# Altium footprint library PcbLib1.PcbLib: 18 footprints (part 1 of 2)
Each footprint in its own frame and in the unit in brackets; x right, y up, seen from the top. Pads: shape width x height; smd on the part's side, far side on the other; paste and mask are expansions set on the pad; w line width, h text height; cw(c..) or ccw(c..) is an arc to the next point about the centre after c.
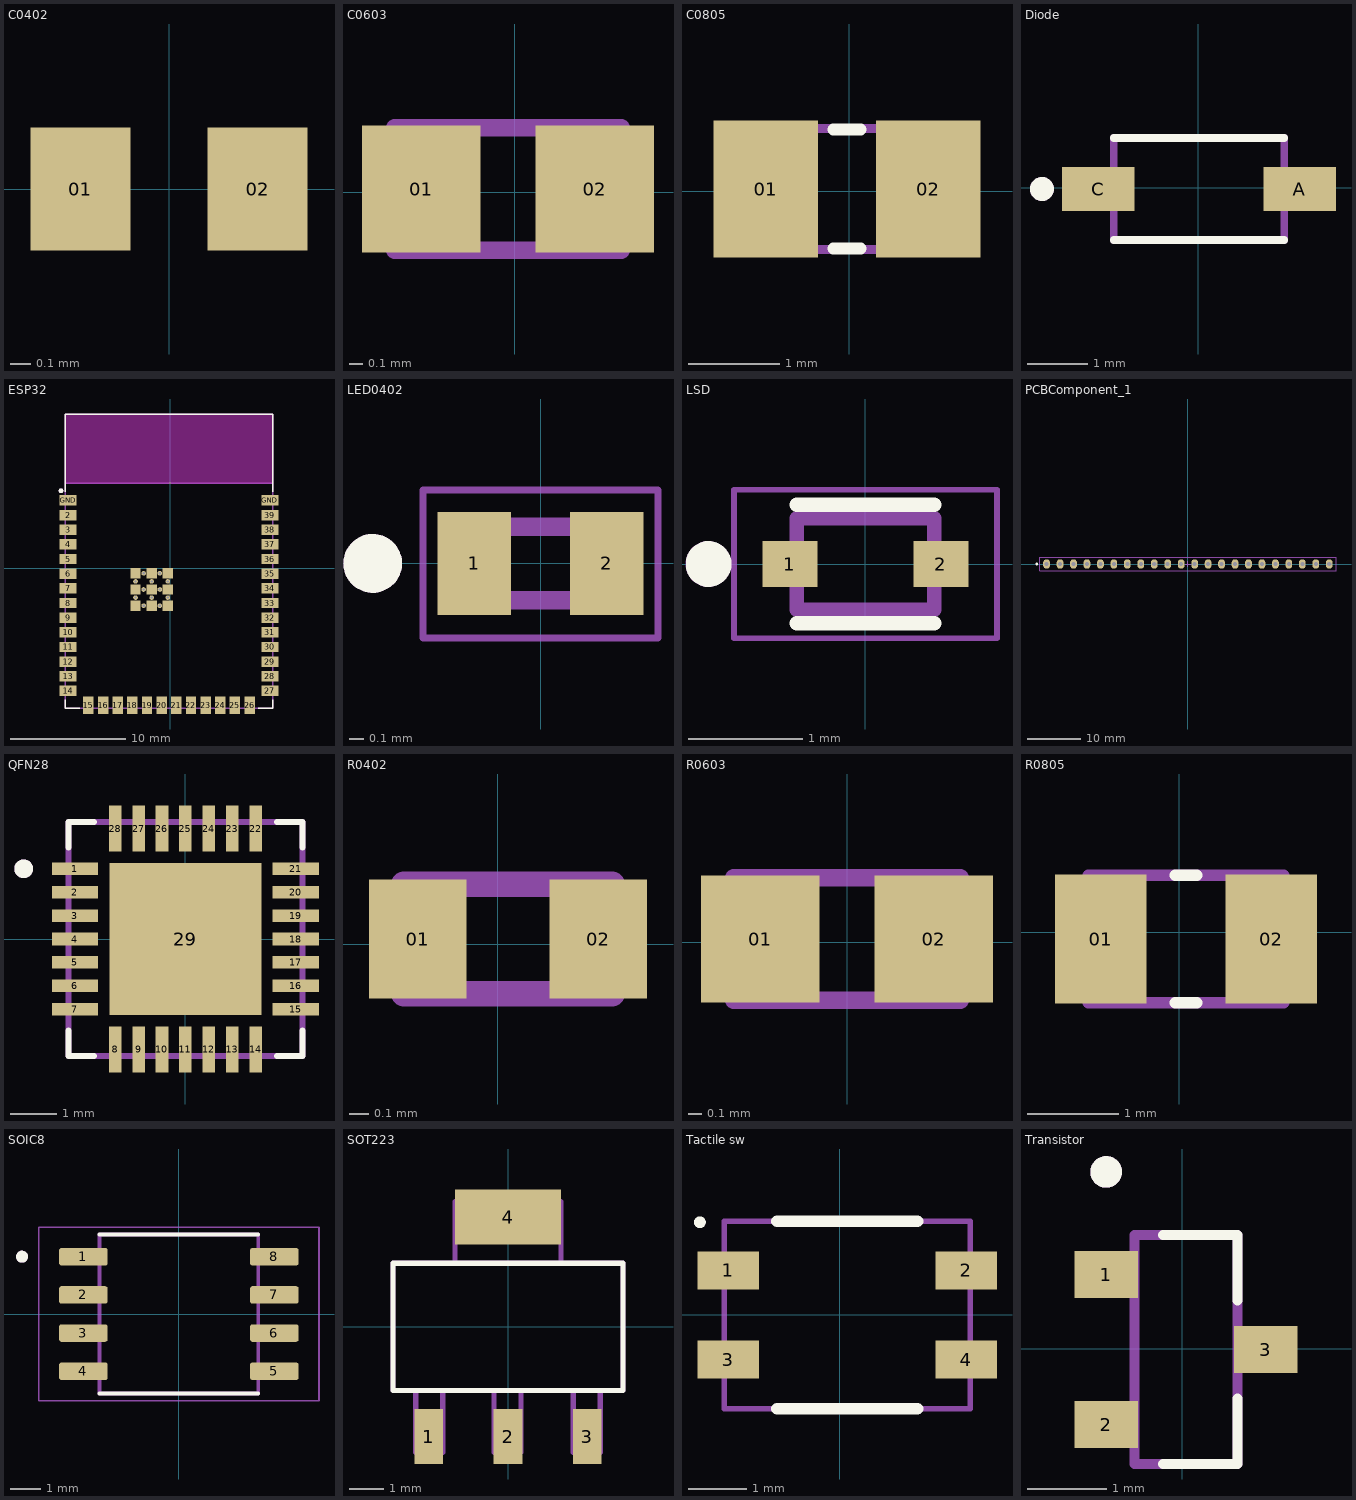
[diagram p0: the footprints below, top view; thin cyan lines are the x and y axes]

## C0402 [mm]
pads (2):
  rect 0.49x0.6 smd: 01(-0.432,0) 02(0.432,0)
3D body "C 0402.sldprt": height 0.53, standoff 0, extent -0.52,-0.262 0.52,0.262

## C0603 [mm]
pads (2):
  rect 0.87x0.93 smd: 01(-0.686,0.025) 02(0.584,0.025)
Mechanical 13:
  lines w0.127: -0.881,-0.425 0.779,-0.425 0.779,0.475 -0.881,0.475 -0.881,-0.425
3D body "User Library-CAP_NP_0603_16Lx081Wx095H.step": height 0.95, standoff 0, extent -0.871,-0.392 0.769,0.443

## C0805 [mil]
pads (2):
  rect 45x59.06 smd: 01(-36,1) 02(34,1)
Top Overlay:
  lines w5: -6.91,-24.59 4.91,-24.59 ; -6.91,26.59 4.91,26.59
Mechanical 13:
  region: -14.47,-27.5 -44,-27.5 -44,29.59 -14.47,29.59
  region: 42.53,-27.5 13,-27.5 13,29.59 42.53,29.59
  lines w4: -16,26.98 14,26.98 ; -15.02,-24.98 14,-24.98
3D body "User Library-CAP_FT_0805_20Lx1251Wx_86H.step": height 34.45, standoff 0, extent -41.16,-24.1 39.16,26.1

## Diode [mm]
pads (2):
  rect 1.21x0.73 smd: A(1.69,-0.023) C(-1.67,-0.023)
Top Overlay:
  circle w0.2: c-2.609,-0.023 r0.1
  lines w0.127: -1.415,-0.873 1.435,-0.873 ; -1.415,0.827 1.435,0.827
Mechanical 13:
  circle w0.2: c-2.609,-0.023 r0.1
  lines w0.127: -1.415,-0.873 -1.415,0.827 1.435,0.827 1.435,-0.873 -1.415,-0.873
3D body "step_temp.STEP": height 1.54, standoff 0.01, extent -1.815,-0.798 1.835,0.752

## ESP32 [mm]
pads (61):
  rect 1.5x0.9 smd: 2(-8.877,4.625) 3(-8.877,3.355) 4(-8.877,2.085) 5(-8.877,0.815) 6(-8.877,-0.455) 7(-8.877,-1.725) 8(-8.877,-2.995) 9(-8.877,-4.265) 10(-8.877,-5.535) 11(-8.877,-6.805) 12(-8.877,-8.075) 13(-8.877,-9.345) 14(-8.877,-10.615) 27(8.623,-10.615) 28(8.623,-9.345) 29(8.623,-8.075) 30(8.623,-6.805) 31(8.623,-5.535) 32(8.623,-4.265) 33(8.623,-2.995) 34(8.623,-1.725) 35(8.623,-0.455) 36(8.623,0.815) 37(8.623,2.085) 38(8.623,3.355) 39(8.623,4.625) GND(-8.877,5.895) GND(8.623,5.895)
  rect 0.9x1.5 smd: 15(-7.112,-11.865) 16(-5.842,-11.865) 17(-4.572,-11.865) 18(-3.302,-11.865) 19(-2.032,-11.865) 20(-0.762,-11.865) 21(0.508,-11.865) 22(1.778,-11.865) 23(3.048,-11.865) 24(4.318,-11.865) 25(5.588,-11.865) 26(6.858,-11.865)
  rect 0.9x0.9 smd: GND(-3.027,-3.225) GND(-3.027,-1.825) GND(-3.027,-0.425) GND(-1.627,-3.225) GND(-1.627,-1.825) GND(-1.627,-0.425) GND(-0.227,-3.225) GND(-0.227,-1.825) GND(-0.227,-0.425)
  round 0.4 hole 0.2 mask+0: GND(-3.027,-2.525) GND(-3.027,-1.125) GND(-2.327,-3.225) GND(-2.327,-1.825) GND(-2.327,-0.425) GND(-1.627,-2.525) GND(-1.627,-1.125) GND(-0.927,-3.225) GND(-0.927,-1.825) GND(-0.927,-0.425) GND(-0.227,-2.525) GND(-0.227,-1.125)
Top Overlay:
  circle w0.2: c-9.489,6.733 r0.1
  lines w0.127: -9.127,-11.385 -9.127,-12.115 -7.882,-12.115 ; -9.127,6.665 -9.127,13.385 8.873,13.385 8.873,6.665 ; 7.628,-12.115 8.873,-12.115 8.873,-11.385
Keep-Out Layer:
  region: 8.873,7.385 -9.127,7.385 -9.127,13.385 8.873,13.385
  region: 8.873,7.385 -9.127,7.385 -9.127,13.385 8.873,13.385
Mechanical 13:
  circle w0.2: c-9.489,6.733 r0.1
  lines w0.127: -9.127,7.385 8.873,7.385 ; -9.127,7.385 -9.127,13.385 8.873,13.385 8.873,7.385 ; -9.127,7.385 -9.127,-12.115 8.873,-12.115 8.873,7.385
  text "ANTENNA" at -4.627,10.135 h1.27
3D body "ESP32-S3-WROOM.step": height 3.11, standoff -0.05, extent -9.137,-12.125 8.883,13.385

## LED0402 [mm]
pads (2):
  rect 0.5x0.7 smd mask+0.05: 1(-0.45,0) 2(0.45,0)
Top Overlay:
  circle w0.2: c-1.143,0 r0.1
Mechanical 13:
  circle w0.2: c-1.143,0 r0.1
  lines w0.127: -0.5,-0.25 -0.5,0.25 0.5,0.25 0.5,-0.25 -0.5,-0.25
Mechanical 15:
  lines w0.05: -0.8,-0.508 -0.8,0 -0.8,0.5 0.8,0.5 0.8,0 0.8,-0.508 -0.8,-0.508
3D body "User Library-led_0402.SLDPRT": height 0.45, standoff 0, extent -0.505,-0.25 0.505,0.25

## LSD [mm]
pads (2):
  rect 0.48x0.4 smd: 1(-0.66,0) 2(0.66,0)
Top Overlay:
  circle w0.2: c-1.372,0 r0.1
  lines w0.127: -0.6,-0.52 0.6,-0.52 ; -0.6,0.52 0.6,0.52
Mechanical 13:
  circle w0.2: c-1.373,0 r0.1
  lines w0.127: -0.6,-0.4 0.6,-0.4 0.6,0.4 -0.6,0.4 -0.6,-0.4
Mechanical 15:
  lines w0.05: -1.15,-0.65 -1.15,0.65 1.15,0.65 1.15,-0.65 -1.15,-0.65
3D body "step_temp.STEP": height 0.7, standoff 0, extent -0.8,-0.4 0.8,0.4

## PCBComponent_1 [mil]
pads (22):
  oval 50x70 hole 30: 1(-1049.98,0.25) 2(-949.98,0.25) 3(-849.98,0.25) 4(-749.98,0.25) 5(-649.98,0.25) 6(-549.98,0.25) 7(-449.98,0.25) 8(-349.98,0.25) 9(-249.98,0.25) 10(-149.98,0.25) 11(-49.98,0.25) 12(50.02,0.25) 13(150.02,0.25) 14(250.02,0.25) 15(350.02,0.25) 16(450.02,0.25) 17(550.02,0.25) 18(650.02,0.25) 19(750.02,0.25) 20(850.02,0.25) 21(950.02,0.25) 22(1050.02,0.25)
Top Overlay:
  circle w9.84: c-1123.61,0.25 r4.92
Top Component Outline:
  lines w3.94: -1099.98,-49.75 1100.02,-49.75 1100.02,50.25 -1099.98,50.25 -1099.98,-49.75
Top Component Center:
  lines w1.97: -19.67,0.25 19.7,0.25 ; 0.02,-19.43 0.02,19.94
3D body "PinHeader_1x22_P2.54mm_Vertical.step": height 77.11, standoff -377.22, extent -1099.98,-49.75 1100.02,50.25

## QFN28 [mm]
pads (29):
  rect 0.99x0.27 smd: 1(-2.36,1.5) 2(-2.36,1) 3(-2.36,0.5) 4(-2.36,0) 5(-2.36,-0.5) 6(-2.36,-1) 7(-2.36,-1.5) 15(2.36,-1.5) 16(2.36,-1) 17(2.36,-0.5) 18(2.36,0) 19(2.36,0.5) 20(2.36,1) 21(2.36,1.5)
  rect 0.27x0.99 smd: 8(-1.5,-2.36) 9(-1,-2.36) 10(-0.5,-2.36) 11(0,-2.36) 12(0.5,-2.36) 13(1,-2.36) 14(1.5,-2.36) 22(1.5,2.36) 23(1,2.36) 24(0.5,2.36) 25(0,2.36) 26(-0.5,2.36) 27(-1,2.36) 28(-1.5,2.36)
  rect 3.25x3.25 smd paste-0.597: 29(0,0)
Top Overlay:
  circle w0.2: c-3.455,1.5 r0.1
  lines w0.127: -2.5,-1.955 -2.5,-2.5 -1.955,-2.5 ; -2.5,1.955 -2.5,2.5 -1.955,2.5 ; 1.955,-2.5 2.5,-2.5 2.5,-1.955 ; 1.955,2.5 2.5,2.5 2.5,1.955
Mechanical 13:
  circle w0.2: c-3.455,1.5 r0.1
  lines w0.127: -2.5,-2.5 2.5,-2.5 2.5,2.5 -2.5,2.5 -2.5,-2.5
3D body "QFN28.step": height 0.95, standoff 0, extent -2.6,-2.6 2.6,2.6

## R0402 [mm]
pads (2):
  rect 0.49x0.6 smd: 01(-0.404,0.025) 02(0.506,0.025)
Mechanical 13:
  lines w0.127: -0.474,-0.25 -0.474,0.3 0.576,0.3 0.576,-0.25 -0.474,-0.25
3D body "R 0402.STEP": height 0.41, standoff 0, extent -0.524,-0.25 0.626,0.3

## R0603 [mm]
pads (2):
  rect 0.87x0.93 smd: 01(-0.635,0.025) 02(0.635,0.025)
Mechanical 13:
  lines w0.127: -0.83,-0.425 -0.83,0.475 0.83,0.475 0.83,-0.425 -0.83,-0.425
3D body "User Library-RES_1609-0603.STEP": height 0.56, standoff 0, extent -0.85,-0.375 0.85,0.425

## R0805 [mm]
pads (2):
  rect 1x1.42 smd: 01(-0.859,-0.076) 02(1.011,-0.076)
Top Overlay:
  lines w0.127: -0.044,-0.776 0.196,-0.776 ; -0.044,0.624 0.196,0.624
Mechanical 13:
  lines w0.127: -0.994,-0.776 -0.994,0.624 1.146,0.624 1.146,-0.776 -0.994,-0.776
3D body "User Library-RES_2013-0805.STEP": height 0.76, standoff 0, extent -1.074,-0.751 1.226,0.599

## SOIC8 [mm]
pads (8):
  rrect25% 1.61x0.58 smd: 1(-3.175,1.905) 2(-3.175,0.635) 3(-3.175,-0.635) 4(-3.175,-1.905) 5(3.175,-1.905) 6(3.175,-0.635) 7(3.175,0.635) 8(3.175,1.905)
Top Overlay:
  circle w0.2: c-5.215,1.905 r0.1
  lines w0.127: -2.64,-2.64 2.64,-2.64 ; -2.64,2.64 2.64,2.64
Mechanical 13:
  circle w0.2: c-5.215,1.905 r0.1
  lines w0.127: -2.64,-2.64 -2.64,2.64 2.64,2.64 2.64,-2.64 -2.64,-2.64
Mechanical 15:
  lines w0.05: -4.66,-2.89 -4.66,2.89 4.66,2.89 4.66,-2.89 -4.66,-2.89
3D body "8SIOC.stp": height 1.93, standoff -0.02, extent -3.099,-2.502 3.099,2.502

## SOT223 [mil]
pads (4):
  rect 33x63 smd: 1(-91,-126) 2(0,-126) 3(91,-126)
  rect 122x63 smd: 4(0,126)
Top Overlay:
  lines w6: -132,-73 -132,73 132,73 132,-73 -132,-73
Mechanical 13:
  lines w6: -132,-73 -132,73 132,73 132,-73 -132,-73 ; -106,-144 -106,-73 -75,-73 -75,-144 -106,-144 ; -61,73 61,73 61,144 -61,144 -61,73 ; -16,-144 -16,-73 15,-73 15,-144 -16,-144 ; 75,-144 75,-73 106,-73 106,-144 75,-144
3D body "User Library-SOT-223-2.STEP": height 74.15, standoff -0.65, extent -130.74,-144.67 133.03,138.96

## Tactile sw [mm]
pads (4):
  rect 1.05x0.65 smd: 1(-1.905,0.762) 2(2.159,0.762) 3(-1.905,-0.762) 4(2.159,-0.762)
Top Overlay:
  lines w0.1: -2.438,1.583 ccw(c-2.388,1.583) -2.338,1.583 ccw(c-2.388,1.583) -2.438,1.583
  lines w0.2: -1.073,-1.6 1.327,-1.6 ; -1.073,1.6 1.327,1.6
Mechanical 15:
  lines w0.1: -1.973,-1.6 -1.973,1.6 2.227,1.6 2.227,-1.6 -1.973,-1.6
3D body "CK-KMR-2.STEP": height 1.9, standoff 0, extent -2.173,-1.4 2.427,1.4

## Transistor [mm]
pads (3):
  rect 0.8x0.6 smd: 1(-0.965,0.94) 2(-0.965,-0.96) 3(1.055,-0.01)
Top Overlay:
  circle w0.2: c-0.965,2.24 r0.1
  lines w0.127: -0.245,-1.46 0.695,-1.46 0.695,-0.63 ; -0.245,1.44 0.695,1.44 0.695,0.61
Mechanical 13:
  circle w0.2: c-0.965,2.24 r0.1
  lines w0.127: -0.605,-1.46 -0.605,1.44 0.695,1.44 0.695,-1.46 -0.605,-1.46
3D body "CircuitWorks-SOT-23.step": height 1.08, standoff -0.02, extent -1.199,-1.5 1.301,1.5